# Altium schematic symbol library SCH - CONNECTORS - TE 1-2314170-1.Schlib: 1 symbol
Pins are listed as number, name and electrical type; pins without a type are passive.

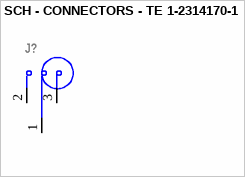
[diagram p0: symbol SCH - CONNECTORS - TE 1-2314170-1]

## SCH - CONNECTORS - TE 1-2314170-1
designator J?
footprint 2314170-1 (1POS,FAKRA AUT,HDR ASSY,90DEG,COD A)
pins: 1 I, 2 GND, 3 GND